# EAGLE library part BL652 (library poi)
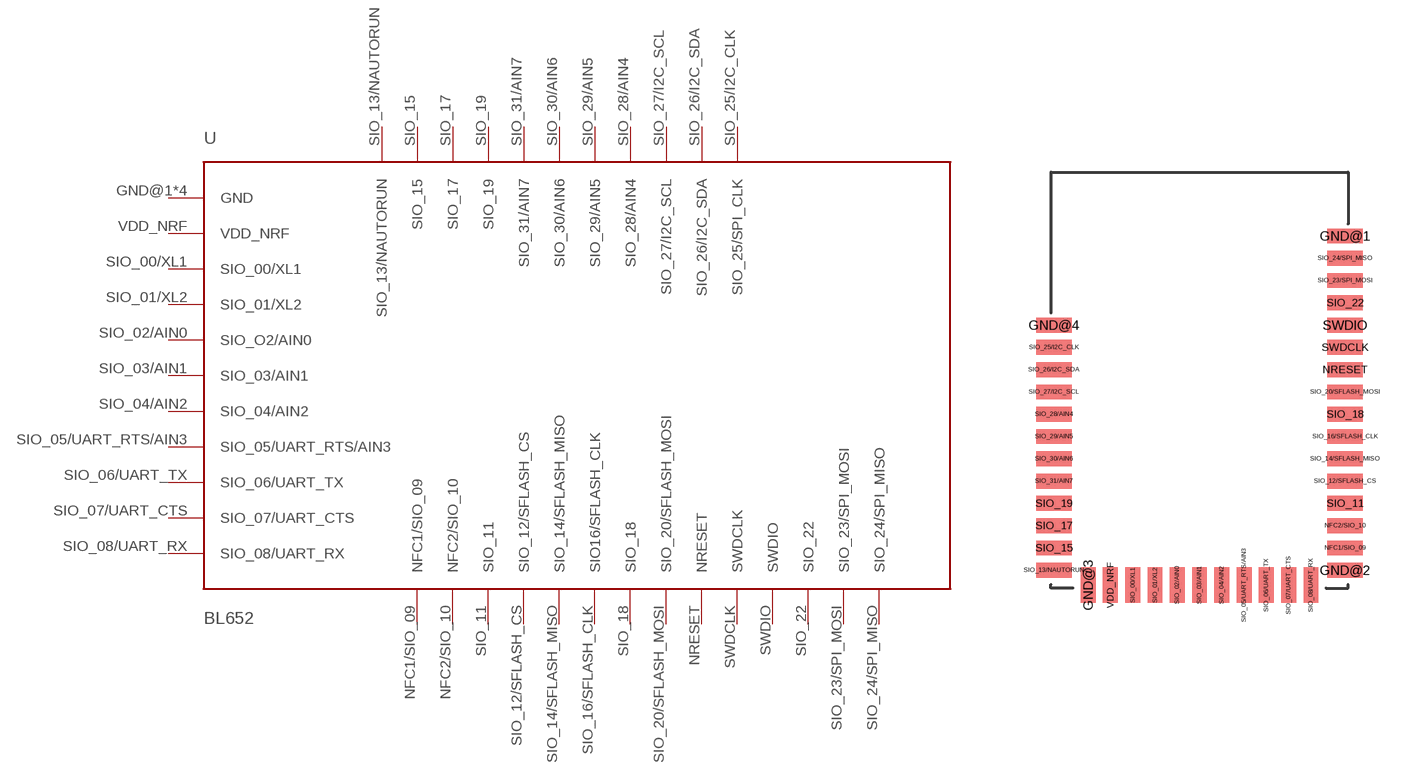
[diagram p0: symbol with the pads of BL652; footprint BL652]

Designator prefix -

## BL652 (MF: LAIRD; MPN: BL652-SA-01; OC_FARNELL: 2664536)  [BL652]
GND@1  GND  pwr
GND@2  GND  pwr
GND@3  GND  pwr
GND@4  GND  pwr
NFC1/SIO_09  NFC1/SIO_09
NFC2/SIO_10  NFC2/SIO_10
NRESET  NRESET
SIO_00/XL1  SIO_00/XL1
SIO_01/XL2  SIO_01/XL2
SIO_02/AIN0  SIO_O2/AIN0
SIO_03/AIN1  SIO_03/AIN1
SIO_04/AIN2  SIO_04/AIN2
SIO_05/UART_RTS/AIN3  SIO_05/UART_RTS/AIN3
SIO_06/UART_TX  SIO_06/UART_TX
SIO_07/UART_CTS  SIO_07/UART_CTS
SIO_08/UART_RX  SIO_08/UART_RX
SIO_11  SIO_11
SIO_12/SFLASH_CS  SIO_12/SFLASH_CS
SIO_13/NAUTORUN  SIO_13/NAUTORUN
SIO_14/SFLASH_MISO  SIO_14/SFLASH_MISO
SIO_15  SIO_15
SIO_16/SFLASH_CLK  SIO16/SFLASH_CLK
SIO_17  SIO_17
SIO_18  SIO_18
SIO_19  SIO_19
SIO_20/SFLASH_MOSI  SIO_20/SFLASH_MOSI
SIO_22  SIO_22
SIO_23/SPI_MOSI  SIO_23/SPI_MOSI
SIO_24/SPI_MISO  SIO_24/SPI_MISO
SIO_25/I2C_CLK  SIO_25/SPI_CLK
SIO_26/I2C_SDA  SIO_26/I2C_SDA
SIO_27/I2C_SCL  SIO_27/I2C_SCL
SIO_28/AIN4  SIO_28/AIN4
SIO_29/AIN5  SIO_29/AIN5
SIO_30/AIN6  SIO_30/AIN6
SIO_31/AIN7  SIO_31/AIN7
SWDCLK  SWDCLK
SWDIO  SWDIO
VDD_NRF  VDD_NRF  pwr

## Footprint BL652 (pad centres in mm)
smd 1.2 x 0.5: GND@1 4.9,4.85; GND@2 4.9,-6.4; GND@4 -4.9,1.85; NFC1/SIO_09 4.9,-5.65; NFC2/SIO_10 4.9,-4.9; NRESET 4.9,0.35; SIO_11 4.9,-4.15; SIO_12/SFLASH_CS 4.9,-3.4; SIO_13/NAUTORUN -4.9,-6.4; SIO_14/SFLASH_MISO 4.9,-2.65; SIO_15 -4.9,-5.65; SIO_16/SFLASH_CLK 4.9,-1.9; SIO_17 -4.9,-4.9; SIO_18 4.9,-1.15; SIO_19 -4.9,-4.15; SIO_20/SFLASH_MOSI 4.9,-0.4; SIO_22 4.9,2.6; SIO_23/SPI_MOSI 4.9,3.35; SIO_24/SPI_MISO 4.9,4.1; SIO_25/I2C_CLK -4.9,1.1; SIO_26/I2C_SDA -4.9,0.35; SIO_27/I2C_SCL -4.9,-0.4; SIO_28/AIN4 -4.9,-1.15; SIO_29/AIN5 -4.9,-1.9; SIO_30/AIN6 -4.9,-2.65; SIO_31/AIN7 -4.9,-3.4; SWDCLK 4.9,1.1; SWDIO 4.9,1.85
smd 0.5 x 1.2: GND@3 -3.75,-6.9; SIO_00/XL1 -2.25,-6.9; SIO_01/XL2 -1.5,-6.9; SIO_02/AIN0 -0.75,-6.9; SIO_03/AIN1 0,-6.9; SIO_04/AIN2 0.75,-6.9; SIO_05/UART_RTS/AIN3 1.5,-6.9; SIO_06/UART_TX 2.25,-6.9; SIO_07/UART_CTS 3,-6.9; SIO_08/UART_RX 3.75,-6.9; VDD_NRF -3,-6.9